# Altium footprint library transformer.PcbLib: 8 footprints
Each footprint in its own frame and in the unit in brackets; x right, y up, seen from the top. Pads: shape width x height; smd on the part's side, far side on the other; paste and mask are expansions set on the pad; w line width, h text height; cw(c..) or ccw(c..) is an arc to the next point about the centre after c.
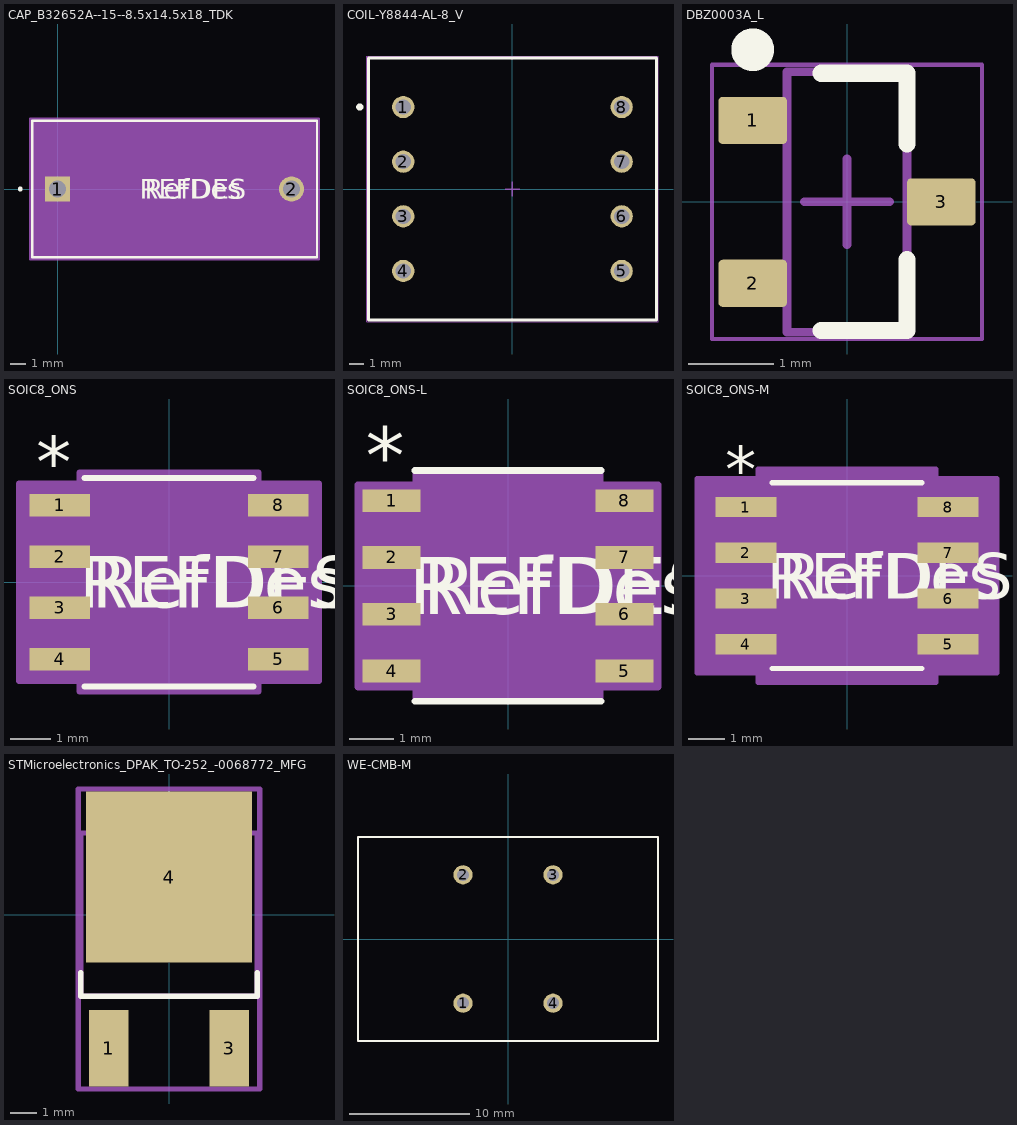
[diagram p0: the footprints below, top view; thin cyan lines are the x and y axes]

## CAP_B32652A--15--8.5x14.5x18_TDK [mil]
pads (2):
  rect 63x63 / inner round 60 / far side rect 63x63 hole 43 paste-99999 mask+0: 1(0,0)
  round 63 / inner round 60 / far side round 63 hole 43 paste-99999 mask+0: 2(590.55,0)
Top Overlay:
  circle w6: c-94.22,0 r3
  lines w6: -64.22,-172.5 654.78,-172.5 654.78,172.5 -64.22,172.5 -64.22,-172.5
  text "REFDES" at 207.78,-25 h50
  text "RefDes" at 220.28,-25 h50
Mechanical 13:
  circle w0: c-39.22,0 r3
  lines w1: -59.22,-167.5 649.78,-167.5 649.78,167.5 -59.22,167.5 -59.22,-167.5
  text "RefDes2" at 207.78,-25 h50
Mechanical 15:
  region: 659.78,-177.5 -69.22,-177.5 -69.22,177.5 659.78,177.5
  lines w6: -69.22,-177.5 -69.22,177.5 659.78,177.5 659.78,-177.5 -69.22,-177.5
3D body "CAP_B32652A--15--85x145x18_TDK.step": height 490.98, standoff -199.02, extent -75.71,-167.48 633.27,167.48

## COIL-Y8844-AL-8_V [mm] "Hand Drawn, 8-Leads, Body 18.3x20.1mm"
height 14
pads (8):
  round 1.55 hole 1.05: 1(-7.62,5.715) 2(-7.62,1.905) 3(-7.62,-1.905) 4(-7.62,-5.715) 5(7.62,-5.715) 6(7.62,-1.905) 7(7.62,1.905) 8(7.62,5.715)
Top Overlay:
  circle w0.25: c-10.65,5.715 r0.125
  lines w0.2: -10.05,-9.15 10.05,-9.15 10.05,9.15 -10.05,9.15 -10.05,-9.15
Mechanical 13:
  lines w0.1: -10.05,-9.15 10.05,-9.15 10.05,9.15 -10.05,9.15 -10.05,-9.15
Mechanical 15:
  lines w0.05: -10.15,-9.25 10.15,-9.25 10.15,9.25 -10.15,9.25 -10.15,-9.25
  lines w0.1: -0.5,0 0.5,0 ; 0,-0.5 0,0.5
3D body: height 14, standoff 0, extent -10.05,-9.15 10.05,9.15

## DBZ0003A_L [mm] "SOT23, 3-Leads, Body 3.04x1.4mm, Pitch 0.95mm, IPC High Density"
height 1.12
pads (3):
  rrect18% 0.8x0.55 smd: 1(-1.1,0.95) 2(-1.1,-0.95) 3(1.1,0)
Top Overlay:
  circle w0.25: c-1.1,1.775 r0.125
  lines w0.2: -0.3,-1.5 0.7,-1.5 0.7,-0.675 ; -0.3,1.5 0.7,1.5 0.7,0.675
Mechanical 1:
  text ".Designator" at -0.508,-0.127 h0.35
Mechanical 13:
  lines w0.1: -0.7,-1.52 0.7,-1.52 0.7,1.52 -0.7,1.52 -0.7,-1.52
Mechanical 15:
  lines w0.05: -1.575,-1.6 1.575,-1.6 1.575,1.6 -1.575,1.6 -1.575,-1.6
  lines w0.1: -0.5,0 0.5,0 ; 0,-0.5 0,0.5
3D body "DBZ0003AakaMF03A.stp": height 0.96, standoff -0.02, extent -1.257,-1.461 1.257,1.46

## SOIC8_ONS [mil]
pads (8):
  rect 59x22 smd paste+0 mask+0: 1(-106.5,75) 2(-106.5,25) 3(-106.5,-25) 4(-106.5,-75) 5(106.5,-75) 6(106.5,-25) 7(106.5,25) 8(106.5,75)
Top Overlay:
  lines w6: -82,-101.5 82,-101.5 ; -82,101.5 82,101.5
  text "RefDes" at -75,-25 h50
  text "*" at -129,92 h50
  text "REFDES" at -87.5,-25 h50
Mechanical 13:
  lines w0: -12,96.5 ccw(c0,96.5) 12,96.5
  lines w1: -122,-85 -77,-85 -77,-65 -122,-65 -122,-85 ; -122,-35 -77,-35 -77,-15 -122,-15 -122,-35 ; -122,15 -77,15 -77,35 -122,35 -122,15 ; -122,65 -77,65 -77,85 -122,85 -122,65 ; -77,-96.5 -77,96.5 77,96.5 77,-96.5 -77,-96.5 ; 77,-85 122,-85 122,-65 77,-65 77,-85 ; 77,-35 122,-35 122,-15 77,-15 77,-35 ; 77,15 122,15 122,35 77,35 77,15 ; 77,65 122,65 122,85 77,85 77,65
  text "RefDes2" at -87.5,-25 h50
  text "*" at -74.5,43.5 h50
Mechanical 15:
  region: -87,-96 -146,-96 -146,96 -87,96 -87,106.5 87,106.5 87,96 146,96 146,-96 87,-96 87,-106.5 -87,-106.5
  lines w6: -146,-96 -87,-96 -87,-106.5 87,-106.5 87,-96 146,-96 146,96 87,96 87,106.5 -87,106.5 -87,96 -146,96 -146,-96
3D body "SOIC8_ONS.step": height 69.09, standoff 0, extent -122.01,-96.5 122.01,96.5

## SOIC8_ONS-L [mil]
pads (8):
  rect 51x20 smd paste+0 mask+0: 1(-102.5,75) 2(-102.5,25) 3(-102.5,-25) 4(-102.5,-75) 5(102.5,-75) 6(102.5,-25) 7(102.5,25) 8(102.5,75)
Top Overlay:
  lines w6: -82,-101.5 82,-101.5 ; -82,101.5 82,101.5
  text "REFDES" at -87.5,-25 h50
  text "*" at -125,90 h50
  text "RefDes" at -75,-25 h50
Mechanical 13:
  lines w0: -12,96.5 ccw(c0,96.5) 12,96.5
  lines w1: -122,-85 -122,-65 -77,-65 -77,-85 -122,-85 ; -122,-35 -122,-15 -77,-15 -77,-35 -122,-35 ; -122,15 -122,35 -77,35 -77,15 -122,15 ; -122,65 -122,85 -77,85 -77,65 -122,65 ; -77,-96.5 77,-96.5 77,96.5 -77,96.5 -77,-96.5 ; 77,-85 77,-65 122,-65 122,-85 77,-85 ; 77,-35 77,-15 122,-15 122,-35 77,-35 ; 77,15 77,35 122,35 122,15 77,15 ; 77,65 77,85 122,85 122,65 77,65
  text "*" at -74.5,43.5 h50
  text "RefDes2" at -87.5,-25 h50
Mechanical 15:
  region: -81,-89 -132,-89 -132,89 -81,89 -81,100.5 81,100.5 81,89 132,89 132,-89 81,-89 81,-100.5 -81,-100.5
  lines w6: -132,-89 -132,89 -81,89 -81,100.5 81,100.5 81,89 132,89 132,-89 81,-89 81,-100.5 -81,-100.5 -81,-89 -132,-89
3D body "SOIC8_ONS.step": height 69.09, standoff 0, extent -122.01,-96.5 122.01,96.5

## SOIC8_ONS-M [mil]
pads (8):
  rect 67x22 smd paste+0 mask+0: 1(-110.5,75) 2(-110.5,25) 3(-110.5,-25) 4(-110.5,-75) 5(110.5,-75) 6(110.5,-25) 7(110.5,25) 8(110.5,75)
Top Overlay:
  lines w6: -82,-101.5 82,-101.5 ; -82,101.5 82,101.5
  text "RefDes" at -75,-25 h50
  text "*" at -133,92 h50
  text "REFDES" at -87.5,-25 h50
Mechanical 13:
  lines w0: -12,96.5 ccw(c0,96.5) 12,96.5
  lines w1: -122,-85 -77,-85 -77,-65 -122,-65 -122,-85 ; -122,-35 -77,-35 -77,-15 -122,-15 -122,-35 ; -122,15 -77,15 -77,35 -122,35 -122,15 ; -122,65 -77,65 -77,85 -122,85 -122,65 ; -77,-96.5 -77,96.5 77,96.5 77,-96.5 -77,-96.5 ; 77,-85 122,-85 122,-65 77,-65 77,-85 ; 77,-35 122,-35 122,-15 77,-15 77,-35 ; 77,15 122,15 122,35 77,35 77,15 ; 77,65 122,65 122,85 77,85 77,65
  text "RefDes2" at -87.5,-25 h50
  text "*" at -74.5,43.5 h50
Mechanical 15:
  region: -97,-106 -164,-106 -164,106 -97,106 -97,116.5 97,116.5 97,106 164,106 164,-106 97,-106 97,-116.5 -97,-116.5
  lines w6: -164,-106 -97,-106 -97,-116.5 97,-116.5 97,-106 164,-106 164,106 97,106 97,116.5 -97,116.5 -97,106 -164,106 -164,-106
3D body "SOIC8_ONS.step": height 69.09, standoff 0, extent -122.01,-96.5 122.01,96.5

## STMicroelectronics_DPAK_TO-252_-0068772_MFG [mm]
pads (3):
  rect 1.5x2.9 smd paste+0 mask+0: 1(-2.285,-5.075) 3(2.285,-5.075)
  rect 6.3x6.5 smd paste+0 mask+0: 4(0,1.425)
Top Overlay:
  lines w0.2: -3.35,-2.2 -3.35,-3.1 3.35,-3.1 3.35,-2.2
Mechanical 10:
  lines w0.2: -3.45,-6.625 3.45,-6.625 3.45,4.775 -3.45,4.775 -3.45,-6.625
  text ".Designator" at 0,-0.926 h1
Mechanical 12:
  lines w0.2: -3.35,-3.1 3.35,-3.1 3.35,3.1 -3.35,3.1 -3.35,-3.1
Mechanical 15:
  lines w0.1: -0.5,0 0.5,0 ; 0,-0.5 0,0.5
  lines w0.2: -3.45,-6.625 3.45,-6.625 3.45,4.775 -3.45,4.775 -3.45,-6.625
3D body "Trans_STMicroelectronics_STD1NK60T4_eec.STEP": height 0.25, standoff 0, extent -3.45,-6.625 3.45,4.775

## WE-CMB-M [mm] "THT Inductor, 4-Leads, Body 25.0 x 17.0 mm"
height 26.5
pads (4):
  round 1.6 hole 1: 1(-3.75,-5.35) 2(-3.75,5.35) 3(3.75,5.35) 4(3.75,-5.35)
Top Overlay:
  lines w0.2: -12.5,-8.5 -12.5,8.5 12.5,8.5 12.5,-8.5 -12.5,-8.5
Mechanical 1:
  lines w0.1: -12.5,-8.5 -12.5,8.5 12.5,8.5 12.5,-8.5 -12.5,-8.5
3D body "744823601.stp": height 26.51, standoff -2.99, extent -11.049,-8.5 11.049,8.5